# Altium schematic symbol library CAP_10uF_0603.SchLib: 1 symbol
Pins are listed as number, name and electrical type; pins without a type are passive.

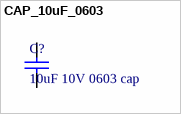
[diagram p0: symbol CAP_10uF_0603]

## CAP_10uF_0603
designator C?, comment 10uF 10V 0603 cap
KEMET - C0603C106M9PACTU - CAP, MLCC, X5R, 10UF, 6.3V, 0603; Dielectric Material: Ceramic; Tolerance: 20%; Manufacturer: KEMET; Manufacturer Part Number: C0603C106M9PACTU; RoHS: Yes; Category: Ceramic Capacitors; Stock 1: 109429; Pricing 1: 1=0.32000, 10=0.22000, 50=0.14680, 100=0.12470, 500=0.08804, 1000=0.07704 (USD); Mount: PCB,Surface Mount; Case/Package: 0603; Number of Pins: 2; Case Code (Imperial): 0603; Case Code (Metric): 1608; Min Operating Temperature: -55°C; Max Operating Temperature: 85°C; Capacitance: 10uF; Packaging: Tape and Reel; Dielectric: X5R; Voltage Rating: 6.3V; Package Quantity: 4000; Series: C0603C; Voltage Rating (DC): 6.3V; Construction: Flat; Termination: SMD/SMT; Voltage: 6.3V; Length: 1.6mm; Height: 0.8mm; Depth: 0.8mm; Radiation Hardening: No; RoHS Compliant: Yes; REACH SVHC: No SVHC; ComponentLink1URL: http://www.farnell.com/datasheets/2739682.pdf?src-supplier=Farnell; ComponentLink1Description: http://www.farnell.com/datasheets/2739682.pdf?src-supplier=Farnell; ComponentLink2URL: http://uk.rs-online.com/webdocs/1515/0900766b8151511d.pdf?src-supplier=RSComponents; ComponentLink2Description: http://uk.rs-online.com/webdocs/1515/0900766b8151511d.pdf?src-supplier=RSComponents; ComponentLink3URL: http://www.farnell.com/datasheets/1918694.pdf?src-supplier=Farnell; ComponentLink3Description: http://www.farnell.com/datasheets/1918694.pdf?src-supplier=Farnell; ComponentLink4URL: http://components.arrow.com/part/dataview/42932973S8313645N7429?src-supplier=Arrow+Electronics; ComponentLink4Description: http://components.arrow.com/part/dataview/42932973S8313645N7429?src-supplier=Arrow+Electronics; ComponentLink5URL: https://www.verical.com/server-webapp/html/getDatasheet?partID=353664&src-supplier=Verical; ComponentLink5Description: https://www.verical.com/server-webapp/html/getDatasheet?partID=353664&src-supplier=Verical; ComponentLink6URL: http://components.arrow.com/part/dataview/0323_00011321?src-supplier=Arrow+Europe; ComponentLink6Description: http://components.arrow.com/part/dataview/0323_00011321?src-supplier=Arrow+Europe; ComponentLink7URL: http://www.farnell.com/datasheets/2739682.pdf?src-supplier=Newark; ComponentLink7Description: http://www.farnell.com/datasheets/2739682.pdf?src-supplier=Newark; ComponentLink8URL: http://capacitoredge.kemet.com/capedge2/DataSheet?pn=C0603C106M9PAC7867&src-supplier=Avnet; ComponentLink8Description: http://capacitoredge.kemet.com/capedge2/DataSheet?pn=C0603C106M9PAC7867&src-supplier=Avnet; ComponentLink9URL: http://www.kemet.com/kemet/web/homepage/kechome.nsf/weben/ADB5E2666EC6BA90CA2570A50016092E/$file/KEM_C1005_Y5V_SMD.pdf?src-supplier=Avnet; ComponentLink9Description: http://www.kemet.com/kemet/web/homepage/kechome.nsf/weben/ADB5E2666EC6BA90CA2570A50016092E/$file/KEM_C1005_Y5V_SMD.pdf?src-supplier=Avnet; ComponentLink10URL: http://www.farnell.com/datasheets/2315129.pdf?src-supplier=Mouser; ComponentLink10Description: http://www.farnell.com/datasheets/2315129.pdf?src-supplier=Mouser; ComponentLink11URL: http://www.farnell.com/datasheets/2315129.pdf?src-supplier=Verical; ComponentLink11Description: http://www.farnell.com/datasheets/2315129.pdf?src-supplier=Verical; ComponentLink12URL: http://www.farnell.com/datasheets/2315129.pdf?src-supplier=Avnet+Asia; ComponentLink12Description: http://www.farnell.com/datasheets/2315129.pdf?src-supplier=Avnet+Asia; ComponentLink13URL: http://www.farnell.com/datasheets/2315129.pdf?src-supplier=Allied+Electronics; ComponentLink13Description: http://www.farnell.com/datasheets/2315129.pdf?src-supplier=Allied+Electronics; ComponentLink14URL: http://www.farnell.com/datasheets/2315129.pdf?src-supplier=RSComponents; ComponentLink14Description: http://www.farnell.com/datasheets/2315129.pdf?src-supplier=RSComponents; ComponentLink15URL: https://api.kemet.com/component-edge/download/datasheet/C0603C106M9PACTU.pdf?src-supplier=Digi-Key; ComponentLink15Description: https://api.kemet.com/component-edge/download/datasheet/C0603C106M9PACTU.pdf?src-supplier=Digi-Key; ComponentLink16URL: http://www.farnell.com/datasheets/2315129.pdf?src-supplier=Distrelec; ComponentLink16Description: http://www.farnell.com/datasheets/2315129.pdf?src-supplier=Distrelec; ComponentLink17URL: http://www.farnell.com/datasheets/2739682.pdf?src-supplier=Element14; ComponentLink17Description: http://www.farnell.com/datasheets/2739682.pdf?src-supplier=Element14; ComponentLink18URL: http://www.kemet.com/kemet/web/homepage/kechome.nsf/file/Commercial%20Ceramic%20Chips%20X5R%20Dielectric/$file/KEM_C1006_X5R_SMD.pdf?src-supplier=Element14; ComponentLink18Description: http://www.kemet.com/kemet/web/homepage/kechome.nsf/file/Commercial%20Ceramic%20Chips%20X5R%20Dielectric/$file/KEM_C1006_X5R_SMD.pdf?src-supplier=Element14; ComponentLink19URL: http://www.farnell.com/datasheets/2315129.pdf?src-supplier=TME; ComponentLink19Description: http://www.farnell.com/datasheets/2315129.pdf?src-supplier=TME; ComponentLink20URL: http://www.farnell.com/datasheets/2315129.pdf?src-supplier=Quest; ComponentLink20Description: http://www.farnell.com/datasheets/2315129.pdf?src-supplier=Quest; ComponentLink21URL: http://www.farnell.com/datasheets/2315129.pdf?src-supplier=TTI; ComponentLink21Description: http://www.farnell.com/datasheets/2315129.pdf?src-supplier=TTI; Supplier 1: Digi-Key; Supplier Part Number 1: 490-12283-1-ND
pins: 1, 2